# Altium footprint library PEAK_PCB_COMPONENTS.PcbLib: 39 footprints (part 1 of 3)
Each footprint in its own frame and in the unit in brackets; x right, y up, seen from the top. Pads: shape width x height; smd on the part's side, far side on the other; paste and mask are expansions set on the pad; w line width, h text height; cw(c..) or ccw(c..) is an arc to the next point about the centre after c.
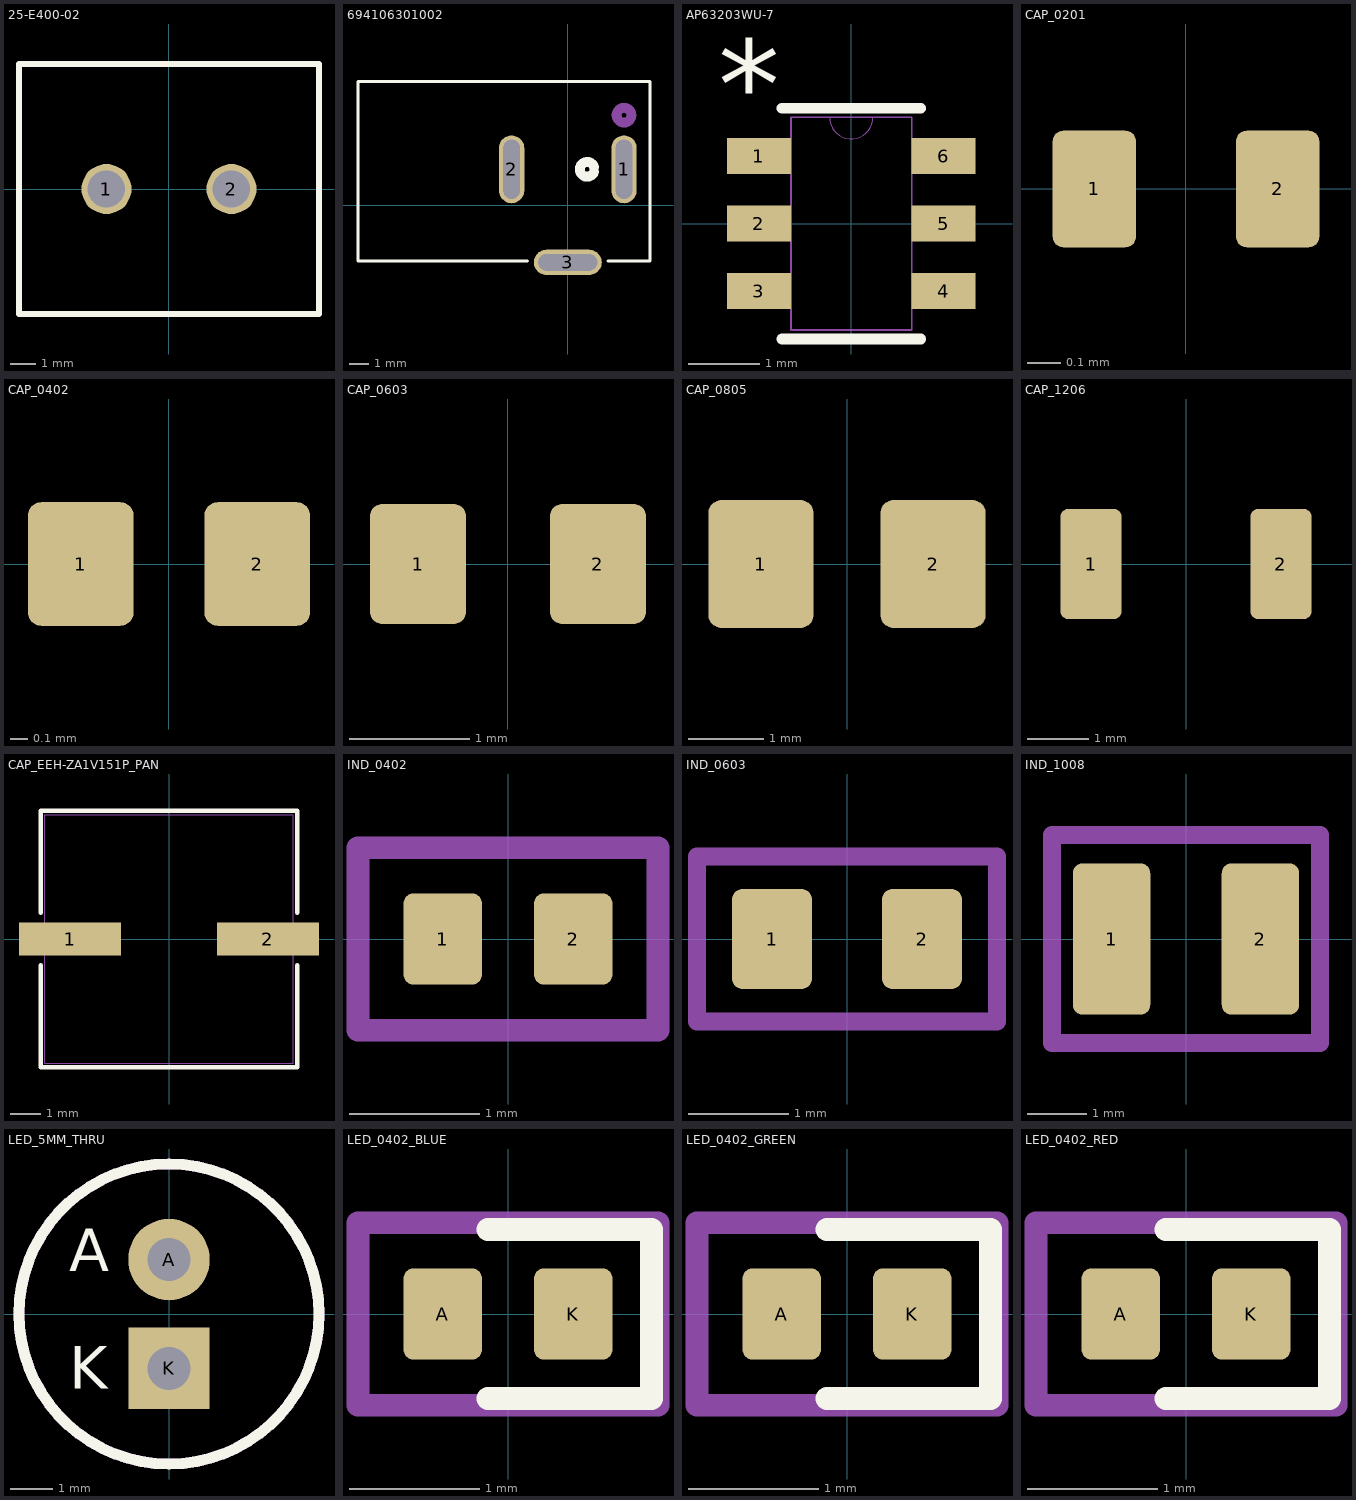
[diagram p0: the footprints below, top view; thin cyan lines are the x and y axes]

## 25-E400-02 [mm] "NTE Electronics, Inc TERMINAL BLOCK EUROSTYLE2 Position Wire to Board Terminal Block Horizontal with Board 0.197\" (5.00mm) Through Hole"
pads (2):
  round 2 hole 1.5: 1(-2.5,0) 2(2.5,0)
Top Overlay:
  lines w0.254: -6,-5 6,-5 6,5 -6,5 -6,-5
3D body "25-E400-02.STEP": height 10.02, standoff -3.49, extent -5.04,-3.848 4.968,3.95

## 694106301002 [mm] "CONN PWR JACK 2.1X5.5MM SOLDER"
pads (3):
  oval 1.308x3.508 hole 0.85 slot 3.05 at 90 deg: 1(2.9,1.85) 2(-2.9,1.85)
  oval 3.508x1.308 hole 0.85 slot 3.05 at 0 deg: 3(0,-2.95)
Top Overlay:
  lines w0.152: -2.084,-2.873 -10.827,-2.873 -10.827,6.373 4.235,6.373 4.235,-2.873 2.084,-2.873
  lines w0.508: 1.359,1.724 cw(c1,1.85) 1.359,1.976
Bottom Overlay:
  circle w0.508: c1,1.85 r0.381
Mechanical 13:
  circle w0.508: c2.9,4.644 r0.381
3D body "694106301002 (rev1).stp": height 10.71, standoff -3.78, extent -10.69,-3.099 3.81,6.401

## AP63203WU-7 [mil]
pads (6):
  rect 35.5x20 smd paste+0 mask+0: 1(-51.25,37.4) 2(-51.25,0) 3(-51.25,-37.4) 4(51.25,-37.4) 5(51.25,0) 6(51.25,37.4)
Top Overlay:
  lines w6: -38.5,-64 38.5,-64 ; -38.5,64 38.5,64
  text "*" at -73.75,52.4 h50
Mechanical 13:
  lines w0: -12,59 ccw(c0,59) 12,59
  lines w1: -55,-46.4 -55,-28.4 -33.5,-28.4 -33.5,-46.4 -55,-46.4 ; -55,-9 -55,9 -33.5,9 -33.5,-9 -55,-9 ; -55,28.4 -55,46.4 -33.5,46.4 -33.5,28.4 -55,28.4 ; -33.5,-59 33.5,-59 33.5,59 -33.5,59 -33.5,-59 ; 33.5,-46.4 33.5,-28.4 55,-28.4 55,-46.4 33.5,-46.4 ; 33.5,-9 33.5,9 55,9 55,-9 33.5,-9 ; 33.5,28.4 33.5,46.4 55,46.4 55,28.4 33.5,28.4
  text "*" at -31,6 h50
3D body "AP63203WU-7_DIO.step": height 39.09, standoff 0, extent -55,-59.02 55,59.02

## CAP_0201 [mm]
pads (2):
  rrect25% 0.25x0.35 smd mask+0.05: 1(-0.275,0) 2(0.275,0)
3D body "C0201.stp": height 0.34, standoff 0.01, extent -0.315,-0.166 0.315,0.164

## CAP_0402 [mm]
pads (2):
  rrect25% 0.6x0.7 smd: 1(-0.5,0) 2(0.5,0)
3D body "C0402.step": height 0.37, standoff 0.01, extent -0.5,-0.265 0.5,0.265

## CAP_0603 [mm]
pads (2):
  rrect25% 0.8x1 smd: 1(-0.75,0) 2(0.75,0)
3D body "C0603.step": height 0.51, standoff 0.01, extent -0.8,-0.4 0.8,0.4

## CAP_0805 [mm]
pads (2):
  rrect25% 1.4x1.7 smd: 1(-1.143,0) 2(1.143,0)
3D body "C0805.stp": height 1.01, standoff 0.01, extent -1.15,-0.762 1.15,0.788

## CAP_1206 [mm]
pads (2):
  rrect25% 1x1.8 smd: 1(-1.55,0) 2(1.55,0)
3D body "C1206.step": height 0.94, standoff 0, extent -1.6,-0.8 1.6,0.8

## CAP_EEH-ZA1V151P_PAN [mil]
pads (2):
  rect 134x43 smd paste+0 mask+0: 1(-130,0) 2(130,0)
Top Overlay:
  lines w6: -168.5,-34.6 -168.5,-168.5 168.5,-168.5 168.5,-34.6 ; -168.5,34.6 -168.5,168.5 168.5,168.5 168.5,34.6
Mechanical 13:
  lines w1: -163.5,-163.5 163.5,-163.5 163.5,163.5 -163.5,163.5 -163.5,-163.5
3D body "8 SIZE CODE F.stp": height 402.12, standoff 0.5, extent -190.94,-163.39 190.94,163.39

## IND_0402 [mm]
pads (2):
  rrect25% 0.6x0.7 smd: 1(-0.5,0) 2(0.5,0)
Mechanical 13:
  lines w0.175: -1.15,-0.7 -1.15,0.7 1.15,0.7 1.15,-0.7 -1.15,-0.7
  text "'.Designator'" at -5.665,-0.417 h1
3D body "L0402.step": height 0.67, standoff 0.01, extent -0.56,-0.256 0.56,0.256

## IND_0603 [mm]
pads (2):
  rrect25% 0.8x1 smd: 1(-0.75,0) 2(0.75,0)
Mechanical 13:
  lines w0.175: -1.5,-0.825 1.5,-0.825 1.5,0.825 -1.5,0.825 -1.5,-0.825
  text "'.Designator'" at -5.665,-0.417 h1
3D body "L0603.step": height 0.87, standoff 0.01, extent -0.81,-0.365 0.81,0.365

## IND_1008 [mm]
pads (2):
  rrect25% 1.3x2.54 smd: 1(-1.25,0) 2(1.25,0)
Mechanical 13:
  lines w0.3: -2.25,-1.75 -2.25,-0.25 -2.25,1.75 2.25,1.75 2.25,-1.75 -2.25,-1.75
  text "'.Designator'" at -5.84,-0.925 h1
3D body "L1008.stp": height 1.71, standoff -0.09, extent -1.3,-1.05 1.3,1.05

## LED_5MM_THRU [mm]
pads (2):
  round 1.9 hole 1: A(0,1.27)
  rect 1.9x1.9 hole 1: K(0,-1.27)
Top Overlay:
  circle w0.254: c0,0 r3.5
  text "K" at -2.333,-1.75 h1
  text "A" at -2.333,1 h1
Bottom Overlay:
  circle w0.254: c0,0 r3.5
  text "A" at -1.667,1 h1
  text "K" at -1.667,-1.75 h1
Mechanical 13:
  circle w0.254: c0,0 r3.5
  text "K" at -0.333,-1.75 h1
  text "A" at -0.333,1 h1
  text "'.Designator'" at -5.665,-0.417 h1
3D body "LED-5mm.STEP": height 21.8, standoff -14, extent -3,-2.5 3,3

## LED_0402_BLUE [mm]
pads (2):
  rrect25% 0.6x0.7 smd: A(-0.5,0) K(0.5,0)
Top Overlay:
  lines w0.175: -0.153,-0.647 1.1,-0.647 1.1,0.647 -0.153,0.647
Mechanical 13:
  lines w0.175: -1.15,-0.7 -1.15,0.7 1.15,0.7 1.15,-0.7 -1.15,-0.7
  text "+" at -1.883,0.508 h0.5
3D body "LED0402-Blue.step": height 0.45, standoff 0, extent -0.505,-0.25 0.505,0.25

## LED_0402_GREEN [mm]
pads (2):
  rrect25% 0.6x0.7 smd: A(-0.5,0) K(0.5,0)
Top Overlay:
  lines w0.175: -0.153,-0.647 1.1,-0.647 1.1,0.647 -0.153,0.647
Mechanical 13:
  lines w0.175: -1.15,-0.7 1.15,-0.7 1.15,0.7 -1.15,0.7 -1.15,-0.7
  text "+" at -1.883,0.508 h0.5
  text "'.Designator'" at -5.665,-0.29 h1
3D body "LED0402-Green.step": height 0.45, standoff 0, extent -0.505,-0.25 0.505,0.25

## LED_0402_RED [mm]
pads (2):
  rrect25% 0.6x0.7 smd: A(-0.5,0) K(0.5,0)
Top Overlay:
  lines w0.175: -0.153,-0.647 1.1,-0.647 1.1,0.647 -0.153,0.647
Mechanical 13:
  lines w0.175: -1.15,-0.7 1.15,-0.7 1.15,0.7 -1.15,0.7 -1.15,-0.7
  text "'.Designator'" at -5.665,-0.29 h1
  text "+" at -1.883,0.508 h0.5
3D body "LED0402-Red.step": height 0.45, standoff 0, extent -0.505,-0.25 0.505,0.25